# Altium footprint library lcd_displays.PcbLib: 9 footprints
Each footprint in its own frame and in the unit in brackets; x right, y up, seen from the top. Pads: shape width x height; smd on the part's side, far side on the other; paste and mask are expansions set on the pad; w line width, h text height; cw(c..) or ccw(c..) is an arc to the next point about the centre after c.
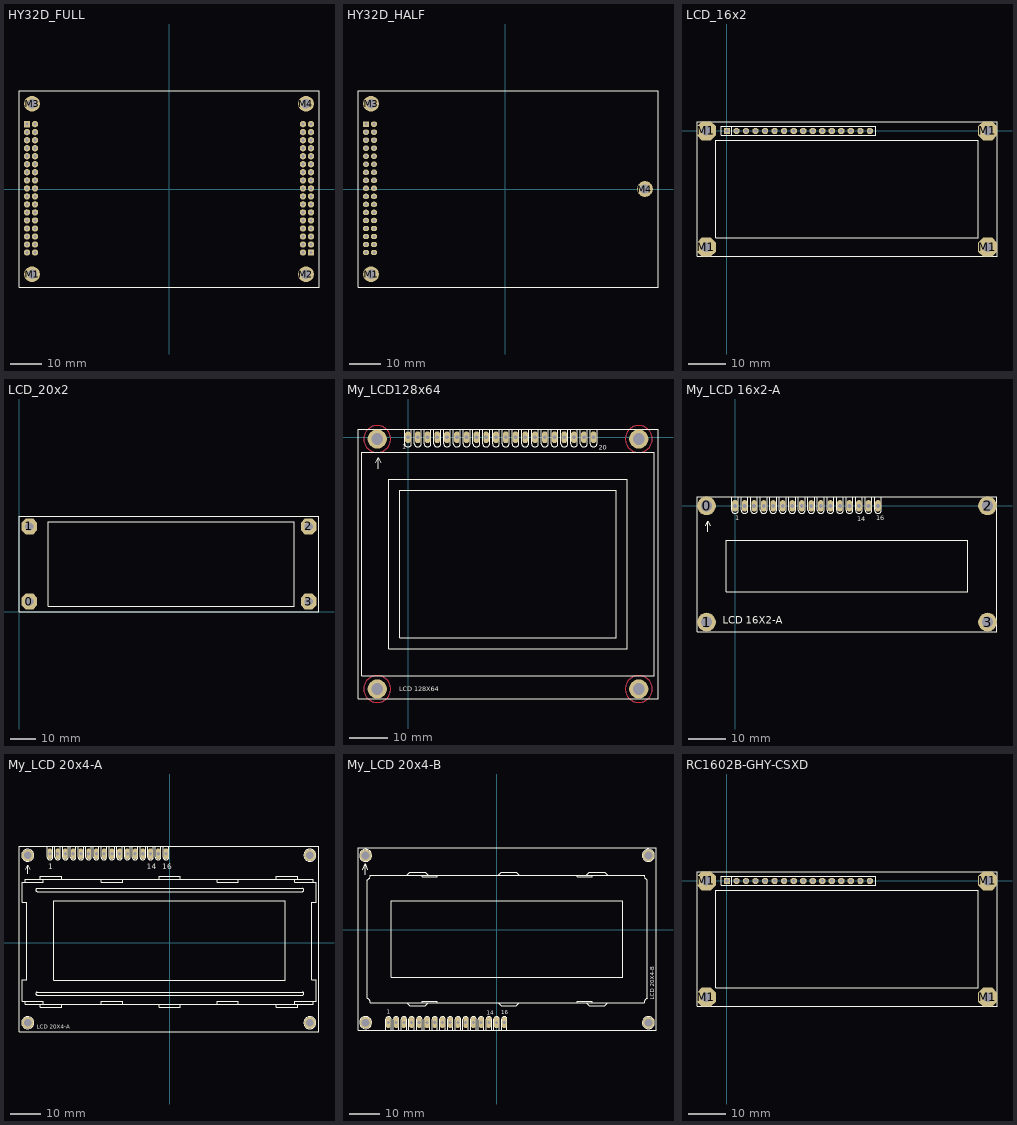
[diagram p0: the footprints below, top view; thin cyan lines are the x and y axes]

## HY32D_FULL [mm]
pads (72):
  rect 2x2 hole 1: A1(-44.955,20.53) B1(44.955,-20.11)
  round 2 hole 1: A2(-42.415,20.53) A3(-44.955,17.99) A4(-42.415,17.99) A5(-44.955,15.45) A6(-42.415,15.45) A7(-44.955,12.91) A8(-42.415,12.91) A9(-44.955,10.37) A10(-42.415,10.37) A11(-44.955,7.83) A12(-42.415,7.83) A13(-44.955,5.29) A14(-42.415,5.29) A15(-44.955,2.75) A16(-42.415,2.75) A17(-44.955,0.21) A18(-42.415,0.21) A19(-44.955,-2.33) A20(-42.415,-2.33) A21(-44.955,-4.87) A22(-42.415,-4.87) A23(-44.955,-7.41) A24(-42.415,-7.41) A25(-44.955,-9.95) A26(-42.415,-9.95) A27(-44.955,-12.49) A28(-42.415,-12.49) A29(-44.955,-15.03) A30(-42.415,-15.03) A31(-44.955,-17.57) A32(-42.415,-17.57) A33(-44.955,-20.11) A34(-42.415,-20.11) B2(42.415,-20.11) B3(44.955,-17.57) B4(42.415,-17.57) B5(44.955,-15.03) B6(42.415,-15.03) B7(44.955,-12.49) B8(42.415,-12.49) B9(44.955,-9.95) B10(42.415,-9.95) B11(44.955,-7.41) B12(42.415,-7.41) B13(44.955,-4.87) B14(42.415,-4.87) B15(44.955,-2.33) B16(42.415,-2.33) B17(44.955,0.21) B18(42.415,0.21) B19(44.955,2.75) B20(42.415,2.75) B21(44.955,5.29) B22(42.415,5.29) B23(44.955,7.83) B24(42.415,7.83) B25(44.955,10.37) B26(42.415,10.37) B27(44.955,12.91) B28(42.415,12.91) B29(44.955,15.45) B30(42.415,15.45) B31(44.955,17.99) B32(42.415,17.99) B33(44.955,20.53) B34(42.415,20.53)
  round 5 hole 3: M1(-43.365,-27) M2(43.365,-27) M3(-43.365,27) M4(43.365,27)
Top Overlay:
  lines w0.25: -47.485,-31.12 47.485,-31.12 47.485,31.12 -47.485,31.12 -47.485,-31.12

## HY32D_HALF [mm]
pads (37):
  rect 2x1.7 hole 1: A1(-44.16,20.53)
  oval 2x1.7 hole 1: A2(-41.62,20.53) A3(-44.16,17.99) A4(-41.62,17.99) A5(-44.16,15.45) A6(-41.62,15.45) A7(-44.16,12.91) A8(-41.62,12.91) A9(-44.16,10.37) A10(-41.62,10.37) A11(-44.16,7.83) A12(-41.62,7.83) A13(-44.16,5.29) A14(-41.62,5.29) A15(-44.16,2.75) A16(-41.62,2.75) A17(-44.16,0.21) A18(-41.62,0.21) A19(-44.16,-2.33) A20(-41.62,-2.33) A21(-44.16,-4.87) A22(-41.62,-4.87) A23(-44.16,-7.41) A24(-41.62,-7.41) A25(-44.16,-9.95) A26(-41.62,-9.95) A27(-44.16,-12.49) A28(-41.62,-12.49) A29(-44.16,-15.03) A30(-41.62,-15.03) A31(-44.16,-17.57) A32(-41.62,-17.57) A33(-44.16,-20.11) A34(-41.62,-20.11)
  round 5 hole 3: M1(-42.57,-27) M3(-42.57,27) M4(44.16,0)
Top Overlay:
  lines w0.25: -46.69,-31.12 48.28,-31.12 48.28,31.12 -46.69,31.12 -46.69,-31.12

## LCD_16x2 [mm]
pads (20):
  rect 1.651x1.651 hole 1: 1(0,0)
  oct 1.651x1.651 hole 1: 2(2.54,0) 3(5.08,0) 4(7.62,0) 5(10.16,0) 6(12.7,0) 7(15.24,0) 8(17.78,0) 9(20.32,0) 10(22.86,0) 11(25.4,0) 12(27.94,0) 13(30.48,0) 14(33.02,0) 15(35.56,0) 16(38.1,0)
  oct 5x5 hole 2.5: M1(-5.5,-31) M1(-5.5,0) M1(69.5,-31) M1(69.5,0)
Top Overlay:
  lines w0.254: 1.27,-1.2 1.27,1.143 ; -8,-33.5 -8,2.5 72,2.5 72,-33.5 -8,-33.5 ; -3,-28.5 67,-28.5 67,-2.5 -3,-2.5 -3,-28.5 ; -1.524,-1.2 -1.524,1.2 39.64,1.2 39.64,-1.2 -1.524,-1.2
3D body "User Library-CCT LCD 2x16.step": height 16.4, standoff 4.41, extent -8,-33.5 72,2.5
3D body "Samtec-SSW-116-01-G-S.step": height 8.51, standoff -2.64, extent -1.524,-1.207 39.624,1.207

## LCD_20x2 [mm]
pads (4):
  oct 6x6 hole 3.2: 0(4,4) 1(4,33) 2(112,33) 3(112,4)
Top Overlay:
  lines w0.254: 11.4,3 11.4,2.25 ; 11.4,2.25 11.4,34.75 106.4,34.75 106.4,2.25 11.4,2.25 ; 0,0 116,0 116,37 0,37 0,0
3D body "User Library-LCD_20x2.step": height 10.9, standoff -2.4, extent 0,0 116,37

## My_LCD128x64 [mm]
pads (24):
  oct 1.508x3.016 hole 1: 1(0,0) 2(2.54,0) 3(5.08,0) 4(7.62,0) 5(10.16,0) 6(12.7,0) 7(15.24,0) 8(17.78,0) 9(20.32,0) 10(22.86,0) 11(25.4,0) 12(27.94,0) 13(30.48,0) 14(33.02,0) 15(35.56,0) 16(38.1,0) 17(40.64,0) 18(43.18,0) 19(45.72,0) 20(48.26,0)
  round 5 hole 3 unplated: ""(-8,-65.46) ""(-8,-0.46) ""(60,-65.46) ""(60,-0.46)
Top Layer:
  circle w0.203: c-8,-0.46 r3.502
  circle w0.203: c60,-0.46 r3.5
  circle w0.203: c-8,-65.46 r3.5
  circle w0.203: c60,-65.46 r3.502
Bottom Layer:
  circle w0.203: c-8,-0.46 r3.501
  circle w0.203: c60,-0.46 r3.502
  circle w0.203: c60,-65.46 r3.502
  circle w0.203: c-8,-65.46 r3.505
Top Overlay:
  lines w0.127: -8.382,-6.604 -7.747,-5.334 -7.112,-6.604 ; -7.747,-8.146 -7.747,-5.461 ; -0.889,1.905 -0.889,-1.651 ccw(c0,-1.651) 0.889,-1.651 0.889,1.905 ; 1.651,1.905 1.651,-1.651 ccw(c2.54,-1.651) 3.429,-1.651 3.429,1.905 ; 4.191,1.905 4.191,-1.651 ccw(c5.08,-1.651) 5.969,-1.651 5.969,1.905 ; 6.731,1.905 6.731,-1.651 ccw(c7.62,-1.651) 8.509,-1.651 8.509,1.905 ; 9.271,1.905 9.271,-1.651 ccw(c10.16,-1.651) 11.049,-1.651 11.049,1.905 ; 11.811,1.905 11.811,-1.651 ccw(c12.7,-1.651) 13.589,-1.651 13.589,1.905 ; 14.351,1.905 14.351,-1.651 ccw(c15.24,-1.651) 16.129,-1.651 16.129,1.905 ; 16.891,1.905 16.891,-1.651 ccw(c17.78,-1.651) 18.669,-1.651 18.669,1.905 ; 19.431,1.905 19.431,-1.651 ccw(c20.32,-1.651) 21.209,-1.651 21.209,1.905 ; 21.971,1.905 21.971,-1.651 ccw(c22.86,-1.651) 23.749,-1.651 23.749,1.905 ; 24.511,1.905 24.511,-1.651 ccw(c25.4,-1.651) 26.289,-1.651 26.289,1.905 ; 27.051,1.905 27.051,-1.651 ccw(c27.94,-1.651) 28.829,-1.651 28.829,1.905 ; 29.591,1.905 29.591,-1.651 ccw(c30.48,-1.651) 31.369,-1.651 31.369,1.905 ; 32.131,1.905 32.131,-1.651 ccw(c33.02,-1.651) 33.909,-1.651 33.909,1.905 ; 34.671,1.905 34.671,-1.651 ccw(c35.56,-1.651) 36.449,-1.651 36.449,1.905 ; 37.211,1.905 37.211,-1.651 ccw(c38.1,-1.651) 38.989,-1.651 38.989,1.905 ; 39.751,1.905 39.751,-1.651 ccw(c40.64,-1.651) 41.529,-1.651 41.529,1.905 ; 42.291,1.905 42.291,-1.651 ccw(c43.18,-1.651) 44.069,-1.651 44.069,1.905 ; 44.831,1.905 44.831,-1.651 ccw(c45.72,-1.651) 46.609,-1.651 46.609,1.905 ; 47.371,1.905 47.371,-1.651 ccw(c48.26,-1.651) 49.149,-1.651 49.149,1.905
  lines w0.203: -13,-67.96 -13,2.04 65,2.04 65,-67.96 -13,-67.96 ; -12,-61.96 -12,-3.96 64,-3.96 64,-61.96 -12,-61.96 ; -5,-54.96 -5,-10.96 57,-10.96 57,-54.96 -5,-54.96 ; -2.13,-52.14 -2.13,-13.79 54.14,-13.79 54.14,-52.14 -2.13,-52.14
  text "20" at 49.53,-3.302 h1.27
  text "1" at -1.524,-3.048 h1.27
  text "LCD 128X64" at -2.286,-66.04 h1.27

## My_LCD 16x2-A [mil]
pads (20):
  round 196.85 hole 118.11: 0(-300,0) 1(-300,-1220) 2(2650,0) 3(2650,-1220)
  oct 60x120 hole 40: 1(0,0)
  oval 60x120 hole 40: 2(100,0) 3(200,0) 4(300,0) 5(400,0) 6(500,0) 7(600,0) 8(700,0) 9(800,0) 10(900,0) 11(1000,0) 12(1100,0) 13(1200,0) 14(1300,0) 15(1400,0) 16(1500,0)
Top Overlay:
  circle w5: c2651.18,0 r49.21
  circle w5: c-301.58,0 r49.21
  circle w5: c2651.18,-1220.5 r49.21
  circle w5: c-301.58,-1220.5 r49.21
  lines w5: -310,-210 -285,-160 -260,-210 ; -285,-270.7 -285,-165 ; -35,95 -35,-45 ccw(c0,-45) 35,-45 35,95 ; 65,95 65,-45 ccw(c100,-45) 135,-45 135,95 ; 165,95 165,-45 ccw(c200,-45) 235,-45 235,95 ; 265,95 265,-45 ccw(c300,-45) 335,-45 335,95 ; 365,95 365,-45 ccw(c400,-45) 435,-45 435,95 ; 465,95 465,-45 ccw(c500,-45) 535,-45 535,95 ; 565,95 565,-45 ccw(c600,-45) 635,-45 635,95 ; 665,95 665,-45 ccw(c700,-45) 735,-45 735,95 ; 765,95 765,-45 ccw(c800,-45) 835,-45 835,95 ; 865,95 865,-45 ccw(c900,-45) 935,-45 935,95 ; 965,95 965,-45 ccw(c1000,-45) 1035,-45 1035,95 ; 1065,95 1065,-45 ccw(c1100,-45) 1135,-45 1135,95 ; 1165,95 1165,-45 ccw(c1200,-45) 1235,-45 1235,95 ; 1265,95 1265,-45 ccw(c1300,-45) 1335,-45 1335,95 ; 1365,95 1365,-45 ccw(c1400,-45) 1435,-45 1435,95 ; 1465,95 1465,-45 ccw(c1500,-45) 1535,-45 1535,95 ; -400,-1318.93 -400,98.4 2749.6,98.4 2749.6,-1318.93 -400,-1318.93 ; -94.88,-901.6 2444.49,-901.6 2444.49,-358.3 -94.88,-358.3 -94.88,-901.6
  text "LCD 16X2-A" at -130,-1240 h75
  text "16" at 1480,-150 h50
  text "1" at 0,-150 h50
  text "14" at 1280,-160 h50

## My_LCD 20x4-A [mil]
pads (20):
  oct 60x140 hole 40: 1(-1550.5,1150) 2(-1450.5,1150) 3(-1350.5,1150) 4(-1250.5,1150) 5(-1150.5,1150) 6(-1050.5,1150) 7(-950.5,1150) 8(-850.5,1150) 9(-750.5,1150) 10(-650.5,1150) 11(-550.5,1150) 12(-450.5,1150) 13(-350.5,1150) 14(-250.5,1150) 15(-150.5,1150) 16(-50.5,1150)
  round 150 hole 100: P$1(-1837.5,-1035) P$2(1808.5,-1035) P$3(1808.5,1130.5) P$4(-1837.5,1130)
Top Overlay:
  drawing of 163 lines, arcs and shapes, not listed
  text "LCD 20X4-A" at -1719.69,-1112.2 h50
  text "14" at -300,950 h70
  text "16" at -100,950 h70
  text "1" at -1575,950 h70

## My_LCD 20x4-B [mil]
pads (20):
  oct 60x140 hole 40: 1(-1400.5,-1199) 2(-1300.5,-1199) 3(-1200.5,-1199) 4(-1100.5,-1199) 5(-1000.5,-1199) 6(-900.5,-1199) 7(-800.5,-1199) 8(-700.5,-1199) 9(-600.5,-1199) 10(-500.5,-1199) 11(-400.5,-1199) 12(-300.5,-1199) 13(-200.5,-1199) 14(-100.5,-1199) 15(-0.5,-1199) 16(99.5,-1199)
  round 150 hole 100: P$1(-1695.5,965.5) P$2(-1695.5,-1199.5) P$3(1966,-1200) P$4(1966,965.5)
Top Overlay:
  circle w5: c-1695.5,965.5 r78
  circle w5: c1966,965.5 r78
  circle w5: c1966,-1199.5 r78
  circle w5: c-1695.5,-1199.5 r78
  lines w5: -1734.95,-1199.6 -1656.21,-1199.6 ; -1734.95,965.8 -1656.21,965.8 ; -1730,778.7 -1700,859 -1675,778.7 ; -1700,716.5 -1700,844 ; -1695.58,-1239 -1695.58,-1160.2 ; -1695.58,926.4 -1695.58,1005.1 ; -1673.23,-885.9 -1673.23,649.6 ; -1673.23,-885.83 cw(c-1692.91,-941.6) -1633.86,-944.88 -1161.42,-944.9 ; -1673.23,649.53 ccw(c-1692.91,705.3) -1633.86,708.58 -1161.42,708.6 ; -1435,-1295 -1435,-1155 cw(c-1400,-1157.5) -1365,-1160 -1365,-1295 ; -1335,-1295 -1335,-1155 cw(c-1300,-1157.5) -1265,-1160 -1265,-1295 ; -1235,-1295 -1235,-1155 cw(c-1200,-1157.5) -1165,-1160 -1165,-1295 ; -1135,-1295 -1135,-1155 cw(c-1100,-1157.5) -1065,-1160 -1065,-1295 ; -1035,-1295 -1035,-1155 cw(c-1000,-1157.5) -965,-1160 -965,-1295 ; -935,-1295 -935,-1155 cw(c-900,-1157.5) -865,-1160 -865,-1295 ; -835,-1295 -835,-1155 cw(c-800,-1157.5) -765,-1160 -765,-1295 ; -735,-1295 -735,-1155 cw(c-700,-1157.5) -665,-1160 -665,-1295 ; -635,-1295 -635,-1155 cw(c-600,-1157.5) -565,-1160 -565,-1295 ; -535,-1295 -535,-1155 cw(c-500,-1157.5) -465,-1160 -465,-1295 ; -435,-1295 -435,-1155 cw(c-400,-1157.5) -365,-1160 -365,-1295 ; -335,-1295 -335,-1155 cw(c-300,-1157.5) -265,-1160 -265,-1295 ; -235,-1295 -235,-1155 cw(c-200,-1157.5) -165,-1160 -165,-1295 ; -135,-1295 -135,-1155 cw(c-100,-1157.5) -65,-1160 -65,-1295 ; -35,-1295 -35,-1155 cw(c0,-1157.5) 35,-1160 35,-1295 ; 65,-1295 65,-1155 cw(c100,-1157.5) 135,-1160 135,-1295 ; 1631.19,316.1 1631.19,375.2 ; 1926.47,-1199.6 2005.21,-1199.6 ; 1926.47,965.8 2005.21,965.8 ; 1948.82,-885.9 1948.82,649.6 ; 1948.82,-885.83 ccw(c1968.5,-941.6) 1909.45,-944.88 1437.01,-944.9 ; 1948.82,649.53 cw(c1968.5,705.3) 1909.45,708.58 1437.01,708.6 ; 1965.84,-1239 1965.84,-1160.2 ; 1965.84,926.4 1965.84,1005.1 ; -1161.42,-944.9 -1122.05,-984.3 -925.2,-984.3 -885.83,-944.9 ; -1161.42,-944.9 -964.57,-944.9 ; -1161.42,708.6 -1122.05,748 -925.2,748 -885.83,708.6 ; -1161.42,708.6 -964.57,708.6 ; -964.57,-944.9 -964.57,-925.2 -767.72,-925.2 -767.72,-944.9 ; -964.57,-944.9 -885.83,-944.9 ; -964.57,708.6 -964.57,688.9 -767.72,688.9 -767.72,708.6 ; -964.57,708.6 -885.83,708.6 ; -885.83,-944.9 -767.72,-944.9 ; -885.83,708.6 -767.72,708.6 ; -767.72,-944.9 19.68,-944.9 ; -767.72,708.6 19.68,708.6 ; 19.68,-944.9 59.05,-984.3 255.9,-984.3 295.27,-944.9 ; 19.68,-944.9 295.27,-944.9 ; 19.68,708.6 59.05,748 255.9,748 295.27,708.6 ; 19.68,708.6 295.27,708.6 ; 295.27,-944.9 1043.31,-944.9 ; 295.27,708.6 1043.31,708.6 ; 1043.31,-944.9 1043.31,-925.2 1240.16,-925.2 1240.16,-944.9 ; 1043.31,-944.9 1161.42,-944.9 ; 1043.31,708.6 1043.31,688.9 1240.16,688.9 1240.16,708.6 ; 1043.31,708.6 1161.42,708.6 ; 1161.42,-944.9 1200.79,-984.3 1397.64,-984.3 1437.01,-944.9 ; 1161.42,-944.9 1240.16,-944.9 ; 1161.42,708.6 1200.79,748 1397.64,748 1437.01,708.6 ; 1161.42,708.6 1240.16,708.6 ; 1240.16,-944.9 1437.01,-944.9 ; 1240.16,708.6 1437.01,708.6 ; 1631.19,375.2 1631.19,-609.1 -1360.93,-609.1 -1360.93,375.2 1631.19,375.2 ; -1794,-1298 -1794,1064.2 2064.27,1064.2 2064.27,-1298 -1794,-1298
  text "LCD 20X4-B" at 2040.16,-903.2 h50
  text "16" at 60,-1094 h50
  text "1" at -1420,-1084 h50
  text "14" at -130,-1100 h50

## RC1602B-GHY-CSXD [mm]
pads (20):
  rect 1.651x1.651 hole 1: 1(0,0)
  oct 1.651x1.651 hole 1: 2(2.54,0) 3(5.08,0) 4(7.62,0) 5(10.16,0) 6(12.7,0) 7(15.24,0) 8(17.78,0) 9(20.32,0) 10(22.86,0) 11(25.4,0) 12(27.94,0) 13(30.48,0) 14(33.02,0) 15(35.56,0) 16(38.1,0)
  oct 5x5 hole 2.5: M1(-5.5,-31) M1(-5.5,0) M1(69.5,-31) M1(69.5,0)
Top Overlay:
  lines w0.254: 1.27,-1.2 1.27,1.143 ; -8,-33.5 72,-33.5 72,2.5 -8,2.5 -8,-33.5 ; -3,-28.5 -3,-2.5 67,-2.5 67,-28.5 -3,-28.5 ; -1.524,-1.2 39.64,-1.2 39.64,1.2 -1.524,1.2 -1.524,-1.2
3D body "User Library-MADA-10.step": height 14.2, standoff -3.2, extent 67.2,-2.3 71.8,2.3
3D body "User Library-MADA-10.step": height 14.2, standoff -3.2, extent 67.2,-33.3 71.8,-28.7
3D body "User Library-MADA-10.step": height 14.2, standoff -3.2, extent -7.8,-33.3 -3.2,-28.7
3D body "User Library-MADA-10.step": height 14.2, standoff -3.2, extent -7.8,-2.3 -3.2,2.3
3D body "Samtec-SSW-116-01-G-S.step": height 8.51, standoff -2.64, extent -1.524,-1.207 39.624,1.207
3D body "User Library-CCT LCD 2x16.step": height 20.4, standoff 8.41, extent -8,-33.5 72,2.5
3D body "Samtec-TSW-116-23-F-S.STEP": height 13.92, standoff 2.62, extent -1.27,-1.27 39.37,1.27